# Altium footprint library 元件库.PcbLib: 17 footprints (part 1 of 2)
Each footprint in its own frame and in the unit in brackets; x right, y up, seen from the top. Pads: shape width x height; smd on the part's side, far side on the other; paste and mask are expansions set on the pad; w line width, h text height; cw(c..) or ccw(c..) is an arc to the next point about the centre after c.
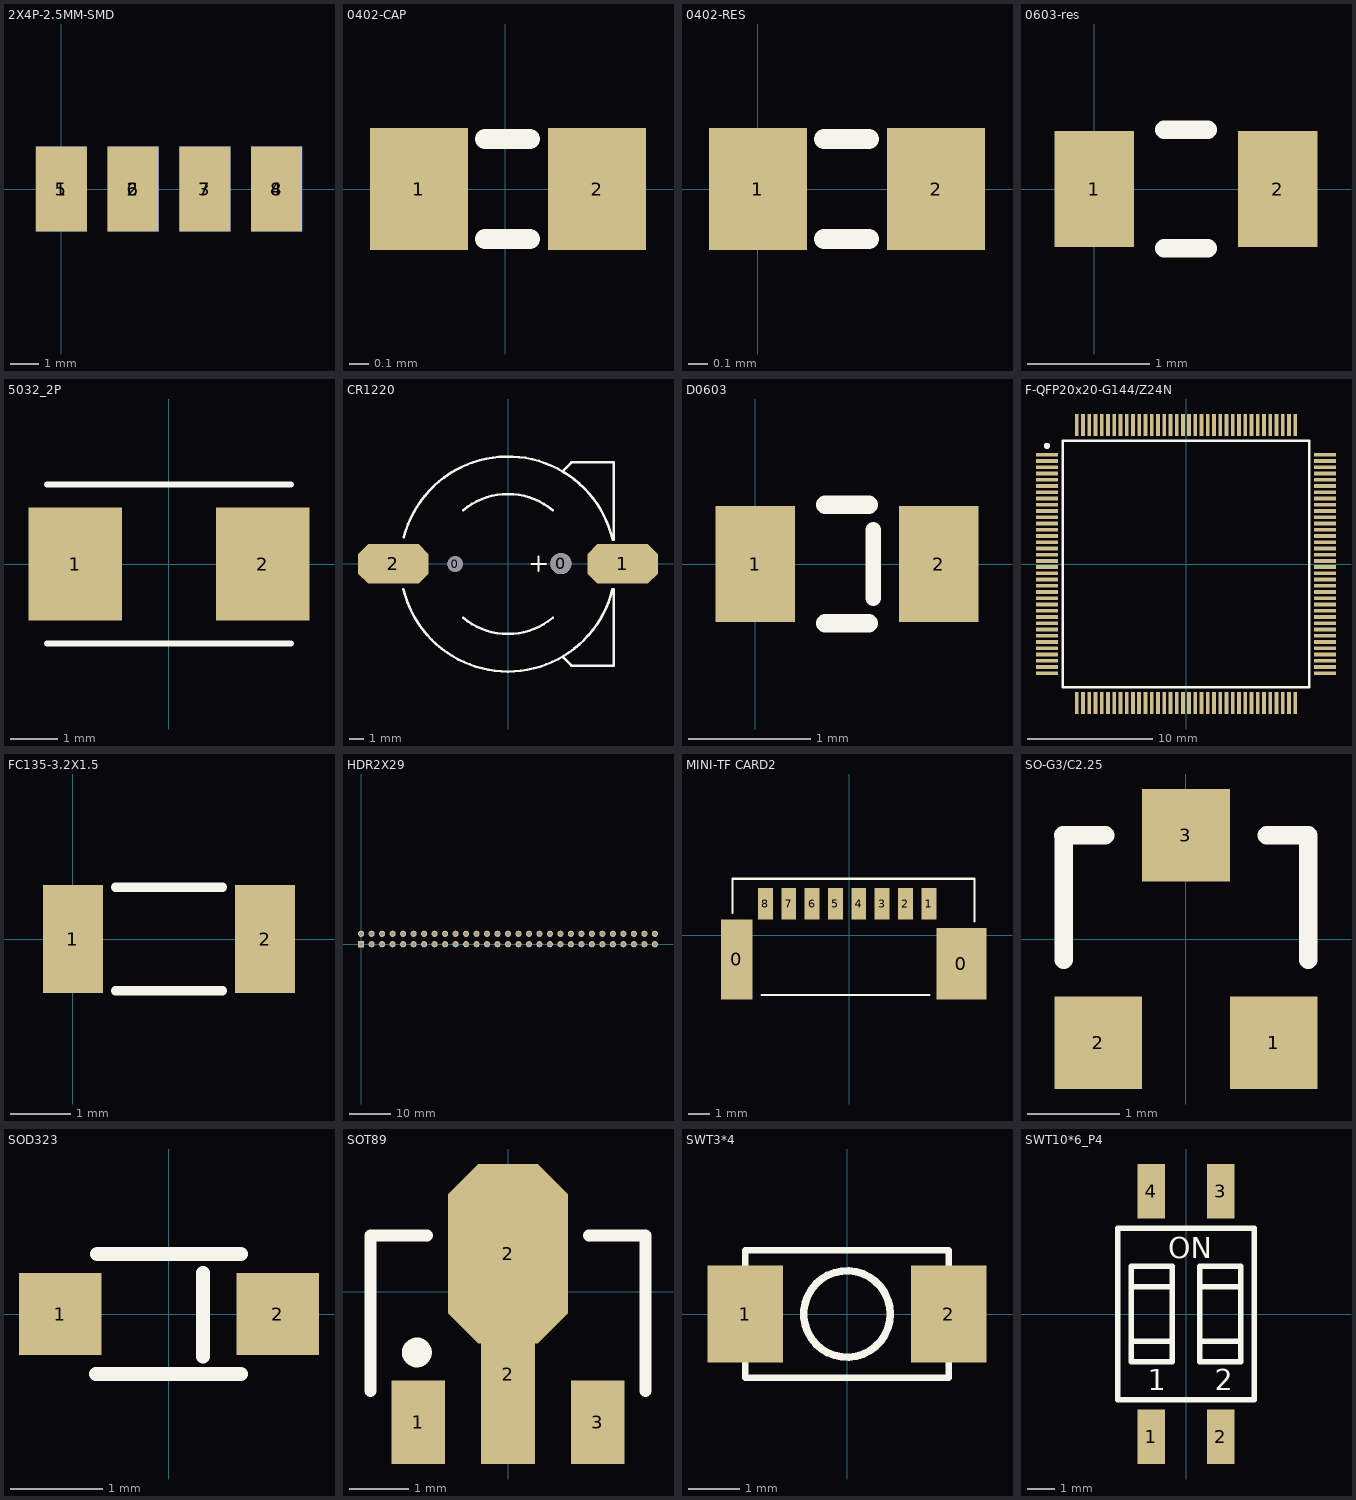
[diagram p0: the footprints below, top view; thin cyan lines are the x and y axes]

## 2X4P-2.5MM-SMD [mm]
pads (8):
  rect 1.8x3 smd: 1(0,0) 2(2.54,0) 3(5.08,0) 4(7.62,0)
  rect 1.8x3 smd far side: 5(0,0) 6(2.54,0) 7(5.08,0) 8(7.62,0)

## 0402-CAP [mm] "Chip Capacitor, 2-Leads, Body 1.00x0.50mm, IPC Medium Density"
height 0.5
pads (2):
  rect 0.5x0.62 smd: 1(-0.44,0) 2(0.47,0)
Top Overlay:
  lines w0.102: -0.102,-0.254 0.127,-0.254 ; -0.102,0.254 0.127,0.254
3D body "CAPCP1005X05N.step": height 0.5, standoff 0, extent -0.525,-0.275 0.525,0.275

## 0402-RES [mm] "Chip Resistor, 2-Leads, Body 1.00x0.50mm, IPC Medium Density"
height 0.5
pads (2):
  rect 0.5x0.62 smd: 1(0,0) 2(0.91,0)
Top Overlay:
  lines w0.102: 0.338,-0.254 0.567,-0.254 ; 0.338,0.254 0.567,0.254
3D body "RESC1005X05N.step": height 0.5, standoff 0, extent -0.072,-0.275 0.978,0.275

## 0603-res [mm]
height 0.35
pads (2):
  rect 0.65x0.95 smd: 1(0,0) 2(1.5,0)
Top Overlay:
  lines w0.152: 0.572,-0.483 0.928,-0.483 ; 0.572,0.483 0.928,0.483
3D body "0603-res.step": height 0.35, standoff 0, extent -0.125,-0.475 1.625,0.475

## 5032_2P [mm]
pads (2):
  rect 2x2.4 smd: 1(-2,0) 2(2,0)
Top Overlay:
  lines w0.127: -2.6,-1.7 2.6,-1.7 ; -2.6,1.7 2.6,1.7

## CR1220 [mm]
pads (4):
  round 1.1 hole 1.1: 0(-3.754,-0.012)
  round 1.5 hole 1.5: 0(3.746,0.012)
  oct 5x2.8 smd: 1(8.132,-0.01) 2(-8.132,-0.01)
Top Overlay:
  lines w0.152: 1.655,-0.01 2.671,-0.01 ; 2.163,-0.518 2.163,0.498
  lines w0.178: -7.411,-1.8 ccw(c-0.004,-0.012) -0.004,-7.632 ccw(c-0.004,-0.012) 7.404,-1.796 ; -7.38,1.9 cw(c-0.004,-0.012) 7.417,1.72 ; -3.176,-3.825 ccw(c-0.004,-0.012) 3.165,-3.827 ; -3.176,3.8 cw(c-0.004,-0.012) 3.171,3.797 ; 3.896,-6.613 4.496,-7.213 7.496,-7.213 7.496,-1.796 ; 3.921,6.613 4.496,7.187 7.496,7.187 7.496,1.72

## D0603 [mm]
pads (2):
  rect 0.65x0.95 smd: 1(0,0) 2(1.5,0)
Top Overlay:
  lines w0.127: 0.965,-0.279 0.965,0.279
  lines w0.152: 0.572,-0.483 0.928,-0.483 ; 0.572,0.483 0.928,0.483
3D body "0603-res.step": height 0.35, standoff 0, extent -0.125,-0.475 1.625,0.475

## F-QFP20x20-G144/Z24N [mm] "QFP; 144 Leads; Body 20 x 20 mm; Pitch 0.5 mm"
height 3
pads (144):
  rect 1.75x0.3 smd: 1(-11.125,8.75) 2(-11.125,8.25) 3(-11.125,7.75) 4(-11.125,7.25) 5(-11.125,6.75) 6(-11.125,6.25) 7(-11.125,5.75) 8(-11.125,5.25) 9(-11.125,4.75) 10(-11.125,4.25) 11(-11.125,3.75) 12(-11.125,3.25) 13(-11.125,2.75) 14(-11.125,2.25) 15(-11.125,1.75) 16(-11.125,1.25) 17(-11.125,0.75) 18(-11.125,0.25) 19(-11.125,-0.25) 20(-11.125,-0.75) 21(-11.125,-1.25) 22(-11.125,-1.75) 23(-11.125,-2.25) 24(-11.125,-2.75) 25(-11.125,-3.25) 26(-11.125,-3.75) 27(-11.125,-4.25) 28(-11.125,-4.75) 29(-11.125,-5.25) 30(-11.125,-5.75) 31(-11.125,-6.25) 32(-11.125,-6.75) 33(-11.125,-7.25) 34(-11.125,-7.75) 35(-11.125,-8.25) 36(-11.125,-8.75) 73(11.125,-8.75) 74(11.125,-8.25) 75(11.125,-7.75) 76(11.125,-7.25) 77(11.125,-6.75) 78(11.125,-6.25) 79(11.125,-5.75) 80(11.125,-5.25) 81(11.125,-4.75) 82(11.125,-4.25) 83(11.125,-3.75) 84(11.125,-3.25) 85(11.125,-2.75) 86(11.125,-2.25) 87(11.125,-1.75) 88(11.125,-1.25) 89(11.125,-0.75) 90(11.125,-0.25) 91(11.125,0.25) 92(11.125,0.75) 93(11.125,1.25) 94(11.125,1.75) 95(11.125,2.25) 96(11.125,2.75) 97(11.125,3.25) 98(11.125,3.75) 99(11.125,4.25) 100(11.125,4.75) 101(11.125,5.25) 102(11.125,5.75) 103(11.125,6.25) 104(11.125,6.75) 105(11.125,7.25) 106(11.125,7.75) 107(11.125,8.25) 108(11.125,8.75)
  rect 0.3x1.75 smd: 37(-8.75,-11.125) 38(-8.25,-11.125) 39(-7.75,-11.125) 40(-7.25,-11.125) 41(-6.75,-11.125) 42(-6.25,-11.125) 43(-5.75,-11.125) 44(-5.25,-11.125) 45(-4.75,-11.125) 46(-4.25,-11.125) 47(-3.75,-11.125) 48(-3.25,-11.125) 49(-2.75,-11.125) 50(-2.25,-11.125) 51(-1.75,-11.125) 52(-1.25,-11.125) 53(-0.75,-11.125) 54(-0.25,-11.125) 55(0.25,-11.125) 56(0.75,-11.125) 57(1.25,-11.125) 58(1.75,-11.125) 59(2.25,-11.125) 60(2.75,-11.125) 61(3.25,-11.125) 62(3.75,-11.125) 63(4.25,-11.125) 64(4.75,-11.125) 65(5.25,-11.125) 66(5.75,-11.125) 67(6.25,-11.125) 68(6.75,-11.125) 69(7.25,-11.125) 70(7.75,-11.125) 71(8.25,-11.125) 72(8.75,-11.125) 109(8.75,11.125) 110(8.25,11.125) 111(7.75,11.125) 112(7.25,11.125) 113(6.75,11.125) 114(6.25,11.125) 115(5.75,11.125) 116(5.25,11.125) 117(4.75,11.125) 118(4.25,11.125) 119(3.75,11.125) 120(3.25,11.125) 121(2.75,11.125) 122(2.25,11.125) 123(1.75,11.125) 124(1.25,11.125) 125(0.75,11.125) 126(0.25,11.125) 127(-0.25,11.125) 128(-0.75,11.125) 129(-1.25,11.125) 130(-1.75,11.125) 131(-2.25,11.125) 132(-2.75,11.125) 133(-3.25,11.125) 134(-3.75,11.125) 135(-4.25,11.125) 136(-4.75,11.125) 137(-5.25,11.125) 138(-5.75,11.125) 139(-6.25,11.125) 140(-6.75,11.125) 141(-7.25,11.125) 142(-7.75,11.125) 143(-8.25,11.125) 144(-8.75,11.125)
Top Overlay:
  circle w0.25: c-11.13,9.45 r0.125
  lines w0.2: -9.85,-9.85 9.85,-9.85 9.85,9.85 -9.85,9.85 -9.85,-9.85

## FC135-3.2X1.5 [mm]
pads (2):
  rect 1x1.8 smd: 1(0,0) 2(3.2,0)
Top Overlay:
  lines w0.152: 0.711,-0.864 2.489,-0.864 ; 0.711,0.864 2.489,0.864

## HDR2X29 [mm]
pads (58):
  rect 1.5x1.5 hole 0.9: 1(0,0)
  round 1.5 hole 0.9: 2(0,2.54) 3(2.54,0) 4(2.54,2.54) 5(5.08,0) 6(5.08,2.54) 7(7.62,0) 8(7.62,2.54) 9(10.16,0) 10(10.16,2.54) 11(12.7,0) 12(12.7,2.54) 13(15.24,0) 14(15.24,2.54) 15(17.78,0) 16(17.78,2.54) 17(20.32,0) 18(20.32,2.54) 19(22.86,0) 20(22.86,2.54) 21(25.4,0) 22(25.4,2.54) 23(27.94,0) 24(27.94,2.54) 25(30.48,0) 26(30.48,2.54) 27(33.02,0) 28(33.02,2.54) 29(35.56,0) 30(35.56,2.54) 31(38.1,0) 32(38.1,2.54) 33(40.64,0) 34(40.64,2.54) 35(43.18,0) 36(43.18,2.54) 37(45.72,0) 38(45.72,2.54) 39(48.26,0) 40(48.26,2.54) 41(50.8,0) 42(50.8,2.54) 43(53.34,0) 44(53.34,2.54) 45(55.88,0) 46(55.88,2.54) 47(58.42,0) 48(58.42,2.54) 49(60.96,0) 50(60.96,2.54) 51(63.5,0) 52(63.5,2.54) 53(66.04,0) 54(66.04,2.54) 55(68.58,0) 56(68.58,2.54) 57(71.12,0) 58(71.12,2.54)

## MINI-TF CARD2 [mm]
pads (10):
  rect 1.5x3.75 smd: 0(-5.29,-1.15)
  rect 2.35x3.35 smd: 0(5.29,-1.35)
  rect 0.7x1.5 smd: 1(3.755,1.475) 2(2.655,1.475) 3(1.555,1.475) 4(0.455,1.475) 5(-0.645,1.475) 6(-1.745,1.475) 7(-2.845,1.475) 8(-3.945,1.475)
Top Overlay:
  lines w0.1: -5.487,1.05 -5.487,2.655 5.907,2.655 5.907,0.65 ; -4.115,-2.823 3.785,-2.823

## SO-G3/C2.25 [mm] "SOT-23; 3 Leads; Body 3.0 x 2.5 mm, inc. leads (LxW max)"
height 1.2
pads (3):
  rect 0.95x1 smd: 1(0.95,-1.125) 2(-0.95,-1.125) 3(0,1.125)
Top Overlay:
  lines w0.2: -1.328,1.125 -0.875,1.125 ; -1.325,-0.225 -1.325,1.125 ; 0.875,1.125 1.325,1.125 1.325,-0.225

## SOD323 [mil] "SODFL, 2-Leads, Body 1.30x2.60mm, IPC Medium Density"
height 39.37
pads (2):
  rect 35x35 smd: 1(-46.26,0) 2(46.26,0)
Top Overlay:
  lines w6: -31,-25.5 30.5,-25.5 ; -30.5,25.5 30.5,25.5 ; 14.44,-18 14.44,17.5
3D body "SOD323.step": height 39.37, standoff 0, extent -51.18,-27.56 51.18,27.56

## SOT89 [mm] "SOT89, 3-Leads, Body 4.50x2.45mm, Pitch 1.50mm, Lead Span 4.1mm, IPC Medium Density"
height 1.6
pads (4):
  rect 0.9x1.4 smd: 1(-1.5,-2.181) 3(1.5,-2.181)
  rect 0.9x3 smd: 2(0,-1.381)
  oct 2x3 smd: 2(0,0.635)
Top Overlay:
  circle w0.25: c-1.524,-1.016 r0.125
  lines w0.2: -2.3,-1.659 -2.3,0.941 -1.35,0.941 ; 1.35,0.941 2.3,0.941 2.3,-1.659
Mechanical 13:
  lines w0.1: -2.3,-1.659 -2.3,0.941 ; 2.3,-1.659 2.3,0.941
3D body "SOT89-150P409X160-3N.step": height 1.6, standoff 0, extent -2.3,-2.581 2.3,1.469

## SWT3*4 [mm]
pads (2):
  rect 1.48x1.9 smd: 1(-2,0) 2(2,0)
Top Overlay:
  circle w0.15: c0,0 r0.85
  lines w0.127: -2,-1.25 -2,1.25 2,1.25 2,-1.25 -2,-1.25

## SWT10*6_P4 [mm]
pads (4):
  rect 1x2 smd: 1(-1.27,-4.5) 2(1.27,-4.5) 3(1.27,4.5) 4(-1.27,4.5)
Top Overlay:
  lines w0.203: -2,-1 -0.5,-1 ; -2,1 -0.5,1 ; 0.5,-1 2,-1 ; 0.5,1 2,1 ; -2.5,-3.15 -2.5,3.15 2.5,3.15 2.5,-3.15 -2.5,-3.15 ; -2,-1.75 -0.5,-1.75 -0.5,1.75 -2,1.75 -2,-1.75 ; 0.5,-1.75 2,-1.75 2,1.75 0.5,1.75 0.5,-1.75
  text "ON" at -0.65,2.05 h0.76
  text "1" at -1.4,-2.8 h0.76
  text "2" at 1.05,-2.8 h0.76